# EAGLE library part 5-5530843-0 (library radio-tracker)
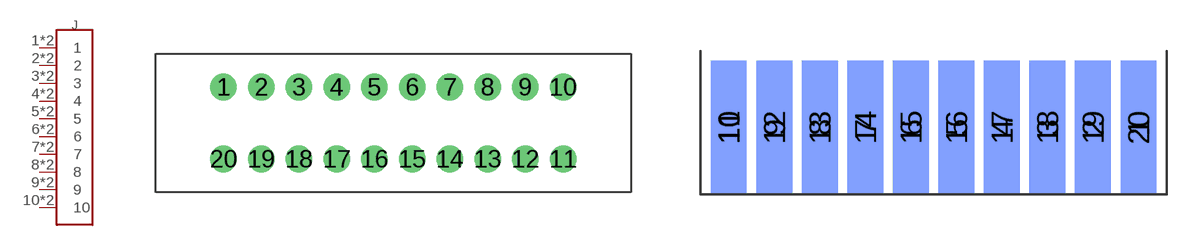
[diagram p3: symbol with the pads of 5-5530843-0; footprints 5-5530843-0, 5-5530843-0-M]

Designator prefix J

## 5-5530843-0FEMALE  [5-5530843-0]
1  1  pwr
2  2  pwr
3  3  pwr
4  4  pwr
5  5  pwr
6  6  pwr
7  7  pwr
8  8  pwr
9  9  pwr
10  10  pwr
11  1  pwr
12  2  pwr
13  3  pwr
14  4  pwr
15  5  pwr
16  6  pwr
17  7  pwr
18  8  pwr
19  9  pwr
20  10  pwr

## 5-5530843-0MALE  [5-5530843-0-M]
Pads as for 5-5530843-0

## Footprint 5-5530843-0 (pad centres in mm)
Double-row, 20-pin Receptacle Header (Female) Straight, 4.85 mm (0.19 in) row pitch, 2.54 mm (0.10 in) col pitch, 7.49 mm insulator length, 32.00 X 9.35 X 7.49 mm body Double-row (2X10), 20-pin Receptacle Header (Female) Straight package with 4.85 mm (0.19 in) row pitch, 2.54 mm (0.10 in) col pitch, 0.70 mm lead width, 3.18 mm tail length and 7.49 mm insulator length with overall size 32.00 X 9.35 X 7.49 mm, pin pattern - clockwise from top left
drill 1.19 pad 1.79: 1 0,0; 2 2.54,0; 3 5.08,0; 4 7.62,0; 5 10.16,0; 6 12.7,0; 7 15.24,0; 8 17.78,0; 9 20.32,0; 10 22.86,0; 11 22.86,-4.85; 12 20.32,-4.85; 13 17.78,-4.85; 14 15.24,-4.85; 15 12.7,-4.85; 16 10.16,-4.85; 17 7.62,-4.85; 18 5.08,-4.85; 19 2.54,-4.85; 20 0,-4.85

## Footprint 5-5530843-0-M (pad centres in mm)
smd 2 x 7.49: 1 11.43,3.745; 2 8.89,3.745; 3 6.35,3.745; 4 3.81,3.745; 5 1.27,3.745; 6 -1.27,3.745; 7 -3.81,3.745; 8 -6.35,3.745; 9 -8.89,3.745; 10 -11.43,3.745
smd 2 x 7.49 bottom: 11 -11.43,3.745; 12 -8.89,3.745; 13 -6.35,3.745; 14 -3.81,3.745; 15 -1.27,3.745; 16 1.27,3.745; 17 3.81,3.745; 18 6.35,3.745; 19 8.89,3.745; 20 11.43,3.745